# EAGLE library part 750313441 (library WE-FLYLT)
WE-FLYLT Flyback Transformers for Linear Technology Characteristics Characteristics Low leakage inductance High saturation current for low-power, DC/DC transformers Self-shielding and space efficient Functional insulation Isolation voltage: Up to 1875VAC at 1 second Lead free and RoHS compliant Operating temp: -40°C to 125°C Package sizes: EP7, EP10, EP13 and ETD34 Designed to meet IEC/UL/EN60950-1 Applications Industrial & medical power supplies Isolated auxiliary/housekeeping power supplies Isolated DC/DC supplies Home automation <https://www.we-online.com/catalog/media/o718711v209%20family-WE-UtFLYLT.jpg> Details see: www.we-online.com/catalog/WE-FLYLT <www.we-online.com/catalog/WE-FLYLT/?utm_source=eagle_model&utm_medium=description_link&utm_campaign=eisos_eagle> Created by Ella Wu 2022-11-17 2022 (C) Wurth Elektronik
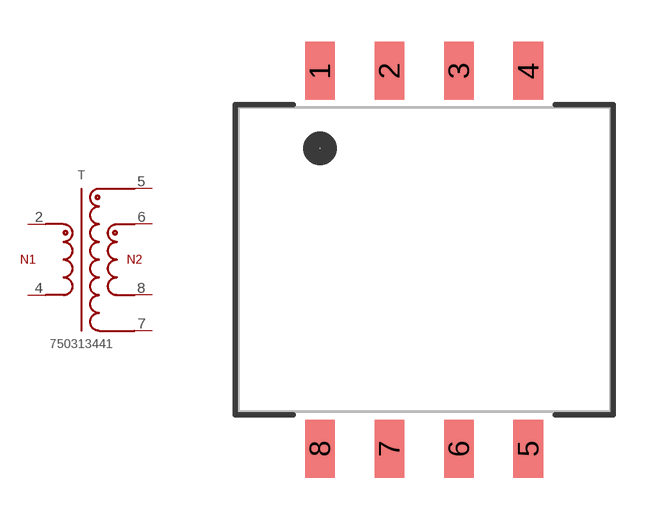
[diagram p8: symbol with the pads of WE-FLYLT_EP10_6052; footprint WE-FLYLT_EP10_6052]

Designator prefix T

## 750313441 (DATASHEET-URL: https://www.we-online.com/redexpert/spec/750313441?ae; IC-REFERENCE: LT8302; IOUT1: 1750mA; IOUT2: 130mA; ISAT: 8A; L: 9uH; LS: 1.5uH; MOUNT: SMT; N: 2:1; PART-NUMBER: 750313441; SIZE: EP10; VALUE: 750313441; VIN: 8 - 32 V (DC); VOUT1: 5V; VOUT2: 12V; VT: 1500V (AC))  [WE-FLYLT_EP10_6052]
2  2  pas
4  4  pas
5  5  pas
6  6  pas
7  7  pas
8  8  pas

## Footprint WE-FLYLT_EP10_6052 (pad centres in mm)
WE-FLYLT Flyback Transformers for Linear Technology Size: EP10,SMT,8pins Bobbin: 070-6052
smd 1.07 x 2.08: 1 -3.735,6.78; 2 -1.245,6.78; 3 1.245,6.78; 4 3.735,6.78; 5 3.735,-6.78; 6 1.245,-6.78; 7 -1.245,-6.78; 8 -3.735,-6.78